# Altium schematic symbol library MCU.SchLib: 37 symbols (part 2 of 2)
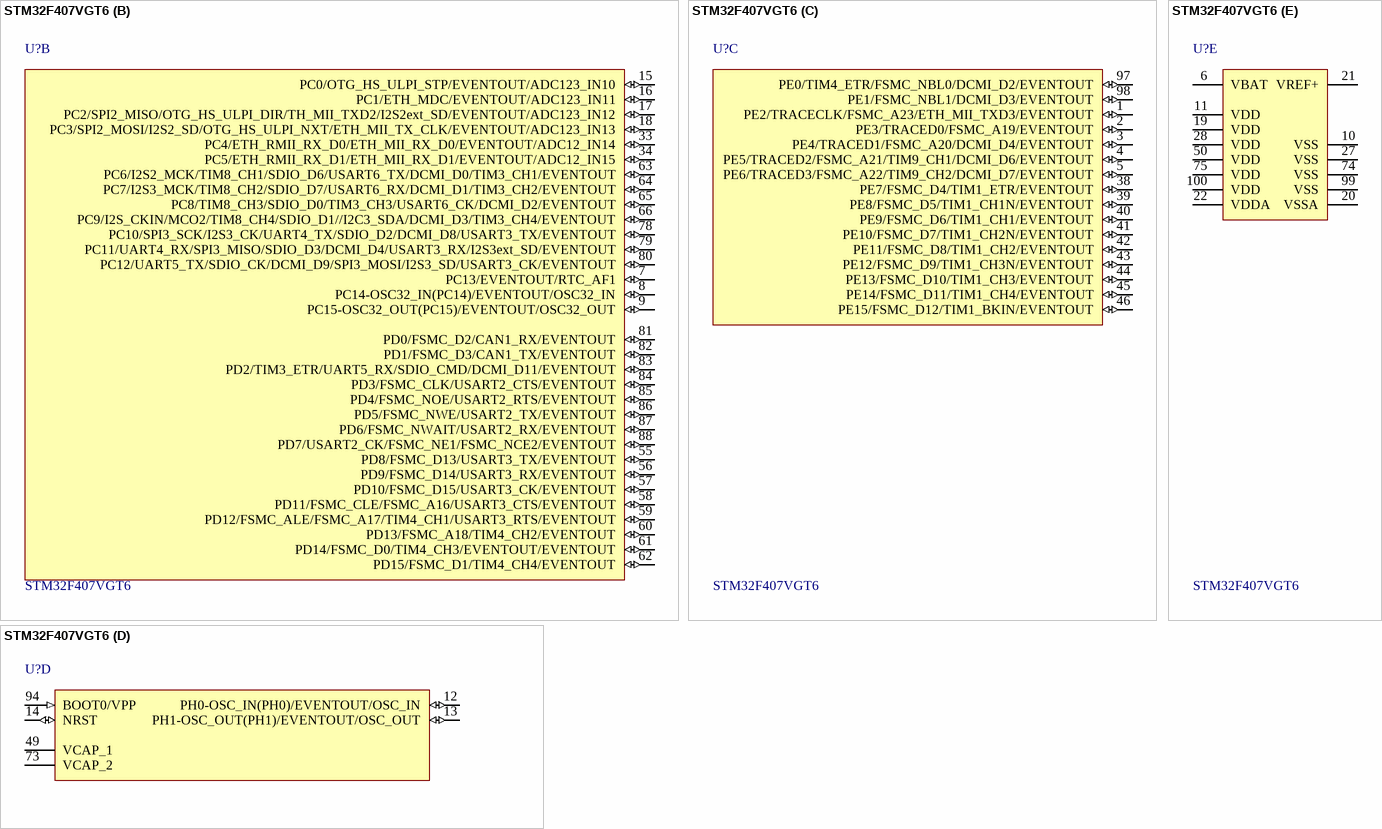
[diagram p10: symbol STM32F407VGT6]

## STM32F407VGT6
designator U?
ARM; ComponentLink1Description: 供应商链接; ComponentLink1URL: http://www.szlcsc.com/product/details_12968.html; Package: LQFP-100_14x14x05P; Supplier: LC; SuppliersPartNumber: C12345
footprint LQFP-100_14x14x05P
part A pins: 23 PA0-WKUP(PA0)/USART2_CTS/UART4_TX/ETH_MII_CRS/TIM2_CH1_ETR/TIM5_CH1/TIM8_ETR/EVENTOUT/ADC123_IN0/WKUP (io), 24 PA1/USART2_RTS/UART4_RX/ETH_RMII_REF_CLK/ETH_MII_RX_CLK/TIM5_CH2/TIM2_CH2/EVENTOUT/ADC123_IN1 (io), 25 PA2/USART2_TX/TIM5_CH3/TIM9_CH1/TIM2_CH3/ETH_MDIO/EVENTOUT/ADC123_IN2 (io), 26 PA3/USART2_RX/TIM5_CH4/TIM9_CH2/TIM2_CH4/OTG_HS_ULPI_D0/ETH_MII_COL/EVENTOUT/ADC123_IN3 (io), 29 PA4/SPI1_NSS/SPI3_NSS/USART2_CK/DCMI_HSYNC/OTG_HS_SOF/I2S3_WS/EVENTOUT/ADC12_IN4/DAC1_OUT (io), 30 PA5/SPI1_SCK/OTG_HS_ULPI_CK/TIM2_CH1_ETR/TIM8_CHIN/EVENTOUT/ADC12_IN5/DAC2_OUT (io), 31 PA6/SPI1_MISO/TIM8_BKIN/TIM13_CH1/DCMI_PIXCLK/TIM3_CH1/TIM1_BKIN/EVENTOUT/ADC12_IN6 (io), 32 PA7/SPI1_MOSI/TIM8_CH1N/TIM14_CH1/TIM3_CH2/ETH_MII_RX_DV/TIM1_CH1N/RMII_CRS_DV/EVENTOUT/ADC12_IN7 (io), 35 PB0/TIM3_CH3/TIM8_CH2N/OTG_HS_ULPI_D1/ETH_MII_RXD2/TIM1_CH2N/EVENTOUT/ADC12_IN8 (io), 36 PB1/TIM3_CH4/TIM8_CH3N/OTG_HS_ULPI_D2/ETH_MII_RXD3/OTG_HS_INTN/TIM1_CH3N/EVENTOUT/ADC12_IN9 (io), 37 PB2-BOOT1(PB2)/EVENTOUT (io), 47 PB10/SPI2_SCK/I2S2_CK/I2C2_SCL/USART3_TX/OTG_HS_ULPI_D3/ETH_MII_RX_ER/TIM2_CH3/EVENTOUT (io), 48 PB11/I2C2_SDA/USART3_RX/OTG_HS_ULPI_D4/ETH_RMII_TX_EN/ETH_MII_TX_EN/TIM2_CH4/EVENTOUT (io), 51 PB12/SPI2_NSS/I2S2_WS/I2C2_SMBA/USART3_CK/TIM1_BKIN/CAN2_RX/OTG_HS_ULPI_D5/ETH_RMII_TXD0/ETH_MII_TXD0/OTG_HS_ID/EVENTOUT (io), 52 PB13/SPI2_SCK/I2S2_CK/USART3_CTS/TIM1_CH1N/CAN2_TX/OTG_HS_ULPI_D6/ETH_RMII_TXD1/ETH_MII_TXD1/EVENTOUT/OTG_HS_VBUS (io), 53 PB14/SPI2_MISO/TIM1_CH2N/TIM12_CH1/OTG_HS_DM/USART3_RTS/TIM8_CH2N/I2S2ext_SD/EVENTOUT (io), 54 PB15/SPI2_MOSI/I2S2_SD/TIM1_CH3N/TIM8_CH3N/TIM12_CH2/OTG_HS_DP/EVENTOUT (io), 67 PA8/MCO1/USART1_CK/TIM1_CH1/I2C3_SCL/OTG_FS_SOF/EVENTOUT (io), 68 PA9/USART1_TX/TIM1_CH2/I2C3_SMBA/DCMI_D0/EVENTOUT/OTG_FS_VBUS (io), 69 PA10/USART1_RX/TIM1_CH3/OTG_FS_ID/DCMI_D1/EVENTOUT (io), 70 PA11/USART1_CTS/CAN1_RX/TIM1_CH4/OTG_FS_DM/EVENTOUT (io), 71 PA12/USART1_RTS/CAN1_TX/TIM1_ETR/OTG_FS_DP/EVENTOUT (io), 72 PA13(JTMS-SWDIO)/JTMS-SWDIO/EVENTOUT (io), 76 PA14(JTCK-SWCLK)/JTCK-SWCLK/EVENTOUT (io), 77 PA15(JTDI)/JTDI/SPI3_NSS/I2S3_WS/TIM2_CH1_ETR/SPI1_NSS/EVENTOUT (io), 89 PB3(JTDO/TRACESWO)/JTDO/TRACESWO/SPI3_SCK/I2S3_CK/TIM2_CH2/SPI1_SCK/EVENTOUT (io), 90 PB4(NJTRST)/NJTRST/SPI3_MISO/TIM3_CH1/SPI1_MISO/I2S3ext_SD/EVENTOUT (io), 91 PB5/I2C1_SMBA/CAN2_RX/OTG_HS_ULPI_D7/ETH_PPS_OUT/TIM3_CH2/SPI1_MOSI/SPI3_MOSI/DCMI_D10/I2S3_SD/EVENTOUT (io), 92 PB6/I2C1_SCL/TIM4_CH1/CAN2_TX/DCMI_D5/USART1_TX/EVENTOUT (io), 93 PB7/I2C1_SDA/FSMC_NL/DCMI_VSYNC/USART1_RX/TIM4_CH2/EVENTOUT (io), 95 PB8/TIM4_CH3/SDIO_D4/TIM10_CH1/DCMI_D6/ETH_MII_TXD3/I2C1_SCL/CAN1_RX/EVENTOUT (io), 96 PB9/SPI2_NSS/I2S2_WS/TIM4_CH4/TIM11_CH1/SDIO_D5/DCMI_D7/I2C1_SDA/CAN1_TX/EVENTOUT (io)
part B pins: 7 PC13/EVENTOUT/RTC_AF1 (io), 8 PC14-OSC32_IN(PC14)/EVENTOUT/OSC32_IN (io), 9 PC15-OSC32_OUT(PC15)/EVENTOUT/OSC32_OUT (io), 15 PC0/OTG_HS_ULPI_STP/EVENTOUT/ADC123_IN10 (io), 16 PC1/ETH_MDC/EVENTOUT/ADC123_IN11 (io), 17 PC2/SPI2_MISO/OTG_HS_ULPI_DIR/TH_MII_TXD2/I2S2ext_SD/EVENTOUT/ADC123_IN12 (io), 18 PC3/SPI2_MOSI/I2S2_SD/OTG_HS_ULPI_NXT/ETH_MII_TX_CLK/EVENTOUT/ADC123_IN13 (io), 33 PC4/ETH_RMII_RX_D0/ETH_MII_RX_D0/EVENTOUT/ADC12_IN14 (io), 34 PC5/ETH_RMII_RX_D1/ETH_MII_RX_D1/EVENTOUT/ADC12_IN15 (io), 55 PD8/FSMC_D13/USART3_TX/EVENTOUT (io), 56 PD9/FSMC_D14/USART3_RX/EVENTOUT (io), 57 PD10/FSMC_D15/USART3_CK/EVENTOUT (io), 58 PD11/FSMC_CLE/FSMC_A16/USART3_CTS/EVENTOUT (io), 59 PD12/FSMC_ALE/FSMC_A17/TIM4_CH1/USART3_RTS/EVENTOUT (io), 60 PD13/FSMC_A18/TIM4_CH2/EVENTOUT (io), 61 PD14/FSMC_D0/TIM4_CH3/EVENTOUT/EVENTOUT (io), 62 PD15/FSMC_D1/TIM4_CH4/EVENTOUT (io), 63 PC6/I2S2_MCK/TIM8_CH1/SDIO_D6/USART6_TX/DCMI_D0/TIM3_CH1/EVENTOUT (io), 64 PC7/I2S3_MCK/TIM8_CH2/SDIO_D7/USART6_RX/DCMI_D1/TIM3_CH2/EVENTOUT (io), 65 PC8/TIM8_CH3/SDIO_D0/TIM3_CH3/USART6_CK/DCMI_D2/EVENTOUT (io), 66 PC9/I2S_CKIN/MCO2/TIM8_CH4/SDIO_D1//I2C3_SDA/DCMI_D3/TIM3_CH4/EVENTOUT (io), 78 PC10/SPI3_SCK/I2S3_CK/UART4_TX/SDIO_D2/DCMI_D8/USART3_TX/EVENTOUT (io), 79 PC11/UART4_RX/SPI3_MISO/SDIO_D3/DCMI_D4/USART3_RX/I2S3ext_SD/EVENTOUT (io), 80 PC12/UART5_TX/SDIO_CK/DCMI_D9/SPI3_MOSI/I2S3_SD/USART3_CK/EVENTOUT (io), 81 PD0/FSMC_D2/CAN1_RX/EVENTOUT (io), 82 PD1/FSMC_D3/CAN1_TX/EVENTOUT (io), 83 PD2/TIM3_ETR/UART5_RX/SDIO_CMD/DCMI_D11/EVENTOUT (io), 84 PD3/FSMC_CLK/USART2_CTS/EVENTOUT (io), 85 PD4/FSMC_NOE/USART2_RTS/EVENTOUT (io), 86 PD5/FSMC_NWE/USART2_TX/EVENTOUT (io), 87 PD6/FSMC_NWAIT/USART2_RX/EVENTOUT (io), 88 PD7/USART2_CK/FSMC_NE1/FSMC_NCE2/EVENTOUT (io)
part C pins: 1 PE2/TRACECLK/FSMC_A23/ETH_MII_TXD3/EVENTOUT (io), 2 PE3/TRACED0/FSMC_A19/EVENTOUT (io), 3 PE4/TRACED1/FSMC_A20/DCMI_D4/EVENTOUT (io), 4 PE5/TRACED2/FSMC_A21/TIM9_CH1/DCMI_D6/EVENTOUT (io), 5 PE6/TRACED3/FSMC_A22/TIM9_CH2/DCMI_D7/EVENTOUT (io), 38 PE7/FSMC_D4/TIM1_ETR/EVENTOUT (io), 39 PE8/FSMC_D5/TIM1_CH1N/EVENTOUT (io), 40 PE9/FSMC_D6/TIM1_CH1/EVENTOUT (io), 41 PE10/FSMC_D7/TIM1_CH2N/EVENTOUT (io), 42 PE11/FSMC_D8/TIM1_CH2/EVENTOUT (io), 43 PE12/FSMC_D9/TIM1_CH3N/EVENTOUT (io), 44 PE13/FSMC_D10/TIM1_CH3/EVENTOUT (io), 45 PE14/FSMC_D11/TIM1_CH4/EVENTOUT (io), 46 PE15/FSMC_D12/TIM1_BKIN/EVENTOUT (io), 97 PE0/TIM4_ETR/FSMC_NBL0/DCMI_D2/EVENTOUT (io), 98 PE1/FSMC_NBL1/DCMI_D3/EVENTOUT (io)
part D pins: 12 PH0-OSC_IN(PH0)/EVENTOUT/OSC_IN (io), 13 PH1-OSC_OUT(PH1)/EVENTOUT/OSC_OUT (io), 14 NRST (io), 49 VCAP_1 (power), 73 VCAP_2 (power), 94 BOOT0/VPP (in)
part E pins: 6 VBAT (power), 10 VSS (power), 11 VDD (power), 19 VDD (power), 20 VSSA (power), 21 VREF+ (power), 22 VDDA (power), 27 VSS (power), 28 VDD (power), 50 VDD (power), 74 VSS (power), 75 VDD (power), 99 VSS (power), 100 VDD (power)

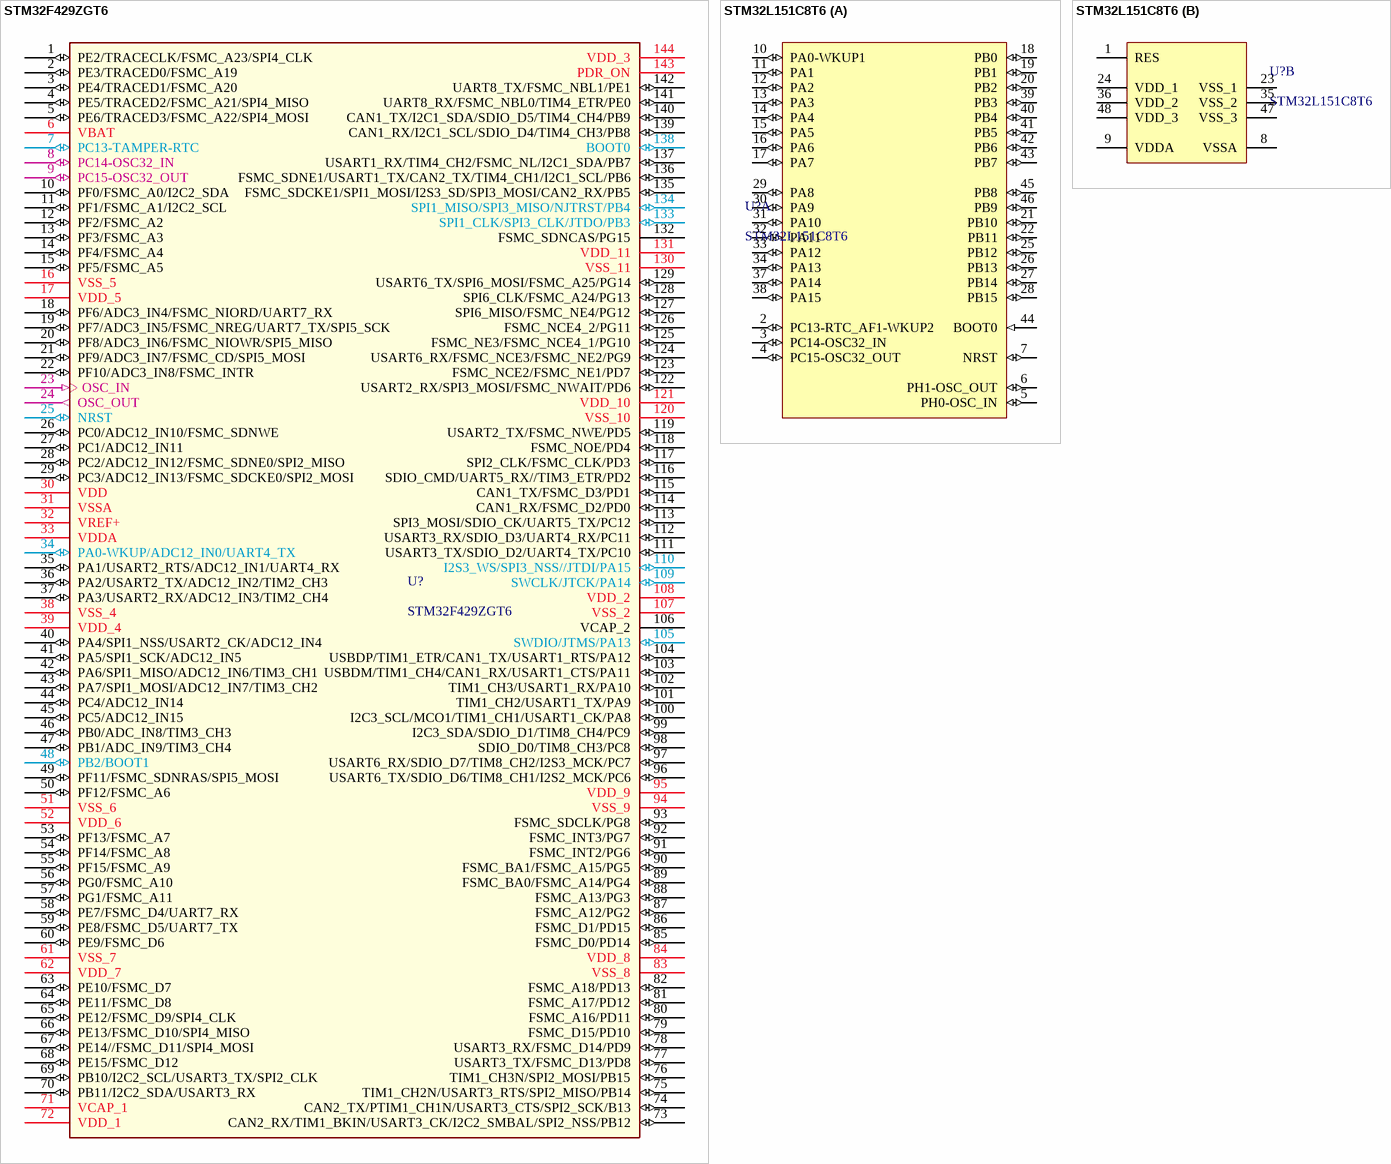
[diagram p9: symbols STM32F429ZGT6 to STM32L151C8T6]

## STM32F429ZGT6
designator U?
ARM; ComponentLink1Description: 供应商链接; ComponentLink1URL: http://www.szlcsc.com/product/details_47529.html; Package: LQFP-144_20x20x05P; Supplier: LC; SuppliersPartNumber: C46525
footprint LQFP-144_20x20x05P
pins: 1 PE2/TRACECLK/FSMC_A23/SPI4_CLK (io), 2 PE3/TRACED0/FSMC_A19 (io), 3 PE4/TRACED1/FSMC_A20 (io), 4 PE5/TRACED2/FSMC_A21/SPI4_MISO (io), 5 PE6/TRACED3/FSMC_A22/SPI4_MOSI (io), 6 VBAT (power), 7 PC13-TAMPER-RTC (io), 8 PC14-OSC32_IN (io), 9 PC15-OSC32_OUT (io), 10 PF0/FSMC_A0/I2C2_SDA (io), 11 PF1/FSMC_A1/I2C2_SCL (io), 12 PF2/FSMC_A2 (io), 13 PF3/FSMC_A3 (io), 14 PF4/FSMC_A4 (io), 15 PF5/FSMC_A5 (io), 16 VSS_5 (power), 17 VDD_5 (power), 18 PF6/ADC3_IN4/FSMC_NIORD/UART7_RX (io), 19 PF7/ADC3_IN5/FSMC_NREG/UART7_TX/SPI5_SCK (io), 20 PF8/ADC3_IN6/FSMC_NIOWR/SPI5_MISO (io), 21 PF9/ADC3_IN7/FSMC_CD/SPI5_MOSI (io), 22 PF10/ADC3_IN8/FSMC_INTR (io), 23 OSC_IN (in), 24 OSC_OUT (out), 25 NRST (io), 26 PC0/ADC12_IN10/FSMC_SDNWE (io), 27 PC1/ADC12_IN11 (io), 28 PC2/ADC12_IN12/FSMC_SDNE0/SPI2_MISO (io), 29 PC3/ADC12_IN13/FSMC_SDCKE0/SPI2_MOSI (io), 30 VDD (power), 31 VSSA (power), 32 VREF+ (power), 33 VDDA (power), 34 PA0-WKUP/ADC12_IN0/UART4_TX (io), 35 PA1/USART2_RTS/ADC12_IN1/UART4_RX (io), 36 PA2/USART2_TX/ADC12_IN2/TIM2_CH3 (io), 37 PA3/USART2_RX/ADC12_IN3/TIM2_CH4 (io), 38 VSS_4 (power), 39 VDD_4 (power), 40 PA4/SPI1_NSS/USART2_CK/ADC12_IN4 (io), 41 PA5/SPI1_SCK/ADC12_IN5 (io), 42 PA6/SPI1_MISO/ADC12_IN6/TIM3_CH1 (io), 43 PA7/SPI1_MOSI/ADC12_IN7/TIM3_CH2 (io), 44 PC4/ADC12_IN14 (io), 45 PC5/ADC12_IN15 (io), 46 PB0/ADC_IN8/TIM3_CH3 (io), 47 PB1/ADC_IN9/TIM3_CH4 (io), 48 PB2/BOOT1 (io), 49 PF11/FSMC_SDNRAS/SPI5_MOSI (io), 50 PF12/FSMC_A6 (io), 51 VSS_6 (power), 52 VDD_6 (power), 53 PF13/FSMC_A7 (io), 54 PF14/FSMC_A8 (io), 55 PF15/FSMC_A9 (io), 56 PG0/FSMC_A10 (io), 57 PG1/FSMC_A11 (io), 58 PE7/FSMC_D4/UART7_RX (io), 59 PE8/FSMC_D5/UART7_TX (io), 60 PE9/FSMC_D6 (io), 61 VSS_7 (power), 62 VDD_7 (power), 63 PE10/FSMC_D7 (io), 64 PE11/FSMC_D8 (io), 65 PE12/FSMC_D9/SPI4_CLK (io), 66 PE13/FSMC_D10/SPI4_MISO (io), 67 PE14//FSMC_D11/SPI4_MOSI (io), 68 PE15/FSMC_D12 (io), 69 PB10/I2C2_SCL/USART3_TX/SPI2_CLK (io), 70 PB11/I2C2_SDA/USART3_RX (io), 71 VCAP_1 (power), 72 VDD_1 (power), 73 CAN2_RX/TIM1_BKIN/USART3_CK/I2C2_SMBAL/SPI2_NSS/PB12 (io), 74 CAN2_TX/PTIM1_CH1N/USART3_CTS/SPI2_SCK/B13 (io), 75 TIM1_CH2N/USART3_RTS/SPI2_MISO/PB14 (io), 76 TIM1_CH3N/SPI2_MOSI/PB15 (io), 77 USART3_TX/FSMC_D13/PD8 (io), 78 USART3_RX/FSMC_D14/PD9 (io), 79 FSMC_D15/PD10 (io), 80 FSMC_A16/PD11 (io), 81 FSMC_A17/PD12 (io), 82 FSMC_A18/PD13 (io), 83 VSS_8 (power), 84 VDD_8 (power), 85 FSMC_D0/PD14 (io), 86 FSMC_D1/PD15 (io), 87 FSMC_A12/PG2 (io), 88 FSMC_A13/PG3 (io), 89 FSMC_BA0/FSMC_A14/PG4 (io), 90 FSMC_BA1/FSMC_A15/PG5 (io), 91 FSMC_INT2/PG6 (io), 92 FSMC_INT3/PG7 (io), 93 FSMC_SDCLK/PG8 (io), 94 VSS_9 (power), 95 VDD_9 (power), 96 USART6_TX/SDIO_D6/TIM8_CH1/I2S2_MCK/PC6 (io), 97 USART6_RX/SDIO_D7/TIM8_CH2/I2S3_MCK/PC7 (io), 98 SDIO_D0/TIM8_CH3/PC8 (io), 99 I2C3_SDA/SDIO_D1/TIM8_CH4/PC9 (io), 100 I2C3_SCL/MCO1/TIM1_CH1/USART1_CK/PA8 (io), 101 TIM1_CH2/USART1_TX/PA9 (io), 102 TIM1_CH3/USART1_RX/PA10 (io), 103 USBDM/TIM1_CH4/CAN1_RX/USART1_CTS/PA11 (io), 104 USBDP/TIM1_ETR/CAN1_TX/USART1_RTS/PA12 (io), 105 SWDIO/JTMS/PA13 (io), 106 VCAP_2 (hiz), 107 VSS_2 (power), 108 VDD_2 (power), 109 SWCLK/JTCK/PA14 (io), 110 I2S3_WS/SPI3_NSS//JTDI/PA15 (io), 111 USART3_TX/SDIO_D2/UART4_TX/PC10 (io), 112 USART3_RX/SDIO_D3/UART4_RX/PC11 (io), 113 SPI3_MOSI/SDIO_CK/UART5_TX/PC12 (io), 114 CAN1_RX/FSMC_D2/PD0 (io), 115 CAN1_TX/FSMC_D3/PD1 (io), 116 SDIO_CMD/UART5_RX//TIM3_ETR/PD2 (io), 117 SPI2_CLK/FSMC_CLK/PD3 (io), 118 FSMC_NOE/PD4 (io), 119 USART2_TX/FSMC_NWE/PD5 (io), 120 VSS_10 (power), 121 VDD_10 (power), 122 USART2_RX/SPI3_MOSI/FSMC_NWAIT/PD6 (io), 123 FSMC_NCE2/FSMC_NE1/PD7 (io), 124 USART6_RX/FSMC_NCE3/FSMC_NE2/PG9 (io), 125 FSMC_NE3/FSMC_NCE4_1/PG10 (io), 126 FSMC_NCE4_2/PG11 (io), 127 SPI6_MISO/FSMC_NE4/PG12 (io), 128 SPI6_CLK/FSMC_A24/PG13 (io), 129 USART6_TX/SPI6_MOSI/FSMC_A25/PG14 (io), 130 VSS_11 (power), 131 VDD_11 (power), 132 FSMC_SDNCAS/PG15, 133 SPI1_CLK/SPI3_CLK/JTDO/PB3 (io), 134 SPI1_MISO/SPI3_MISO/NJTRST/PB4 (io), 135 FSMC_SDCKE1/SPI1_MOSI/I2S3_SD/SPI3_MOSI/CAN2_RX/PB5 (io), 136 FSMC_SDNE1/USART1_TX/CAN2_TX/TIM4_CH1/I2C1_SCL/PB6 (io), 137 USART1_RX/TIM4_CH2/FSMC_NL/I2C1_SDA/PB7 (io), 138 BOOT0 (io), 139 CAN1_RX/I2C1_SCL/SDIO_D4/TIM4_CH3/PB8 (io), 140 CAN1_TX/I2C1_SDA/SDIO_D5/TIM4_CH4/PB9 (io), 141 UART8_RX/FSMC_NBL0/TIM4_ETR/PE0 (io), 142 UART8_TX/FSMC_NBL1/PE1 (io), 143 PDR_ON (power), 144 VDD_3 (power)

## STM32L151C8T6
designator U?
ARM; ComponentLink1Description: 供应商链接; ComponentLink1URL: http://www.szlcsc.com/product/details_10393.html; Package: LQFP-48_7x7x05P; Supplier: LC; SuppliersPartNumber: C9861
footprint LQFP-48_7x7x05P
part A pins: 2 PC13-RTC_AF1-WKUP2 (io), 3 PC14-OSC32_IN (io), 4 PC15-OSC32_OUT (io), 5 PH0-OSC_IN (io), 6 PH1-OSC_OUT (io), 7 NRST (io), 10 PA0-WKUP1 (io), 11 PA1 (io), 12 PA2 (io), 13 PA3 (io), 14 PA4 (io), 15 PA5 (io), 16 PA6 (io), 17 PA7 (io), 18 PB0 (io), 19 PB1 (io), 20 PB2 (io), 21 PB10 (io), 22 PB11 (io), 25 PB12 (io), 26 PB13 (io), 27 PB14 (io), 28 PB15 (io), 29 PA8 (io), 30 PA9 (io), 31 PA10 (io), 32 PA11 (io), 33 PA12 (io), 34 PA13 (io), 37 PA14 (io), 38 PA15 (io), 39 PB3 (io), 40 PB4 (io), 41 PB5 (io), 42 PB6 (io), 43 PB7 (io), 44 BOOT0 (in), 45 PB8 (io), 46 PB9 (io)
part B pins: 1 RES (power) "Connect to VDD", 8 VSSA (power), 9 VDDA (power), 23 VSS_1 (power), 24 VDD_1 (power), 35 VSS_2 (power), 36 VDD_2 (power), 47 VSS_3 (power), 48 VDD_3 (power)